# EAGLE library part *138 (library digital)
74xx138: 3-to-8 line decoder
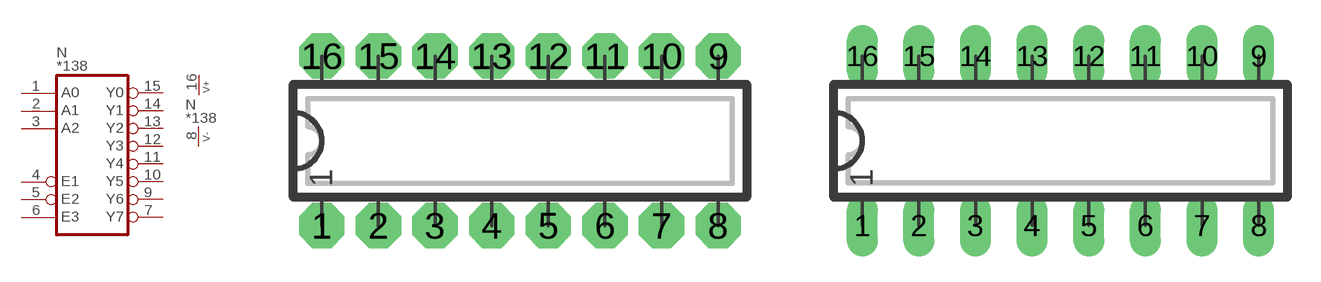
[diagram p11: symbol with the pads of DIP16N; footprints DIP16N, DIP16L]

Designator prefix N; gates  =3TO8_1 P=V+-

## 74AC138N, 74ACT138N, 74ALS138N, 74AS138N, 74HC138N, 74HCT138N, 74LS138N, 74S138N  [DIP16N]
1   :A0  in
2   :A1  in
3   :A2  in
4   :E1  in
5   :E2  in
6   :E3  in
7   :Y7  out
8  P:V-  pwr
9   :Y6  out
10   :Y5  out
11   :Y4  out
12   :Y3  out
13   :Y2  out
14   :Y1  out
15   :Y0  out
16  P:V+  pwr

## 74AC138, 74ACT138, 74ALS138, 74AS138, 74HC138, 74HCT138, 74LS138, 74S138  [DIP16L]
Pads as for DIP16N

## 74AC138L, 74ACT138L, 74ALS138L, 74AS138L, 74HC138L, 74HCT138L, 74LS138L, 74S138L  [DIP16L]
Pads as for DIP16N

## 74AC138R, 74ACT138R, 74ALS138R, 74AS138R, 74HC138R, 74HCT138R, 74LS138R, 74S138R  [DIP16R]
Pads as for DIP16N

## 74AC138S, 74ACT138S, 74HC138S, 74HCT138S  [SO16]
Pads as for DIP16N

## Footprint DIP16N (pad centres in mm)
DIP-16 Standard IC package, 16 pins
drill 0.813 pad 2.032 octagon: 1 0,0; 2 2.54,0; 3 5.08,0; 4 7.62,0; 5 10.16,0; 6 12.7,0; 7 15.24,0; 8 17.78,0; 9 17.78,7.62; 10 15.24,7.62; 11 12.7,7.62; 12 10.16,7.62; 13 7.62,7.62; 14 5.08,7.62; 15 2.54,7.62; 16 0,7.62

## Footprint DIP16L (pad centres in mm)
DIP-16, long pads Standard IC package, 16 pins
drill 0.813 pad 1.397 long: 1 0,0; 2 2.54,0; 3 5.08,0; 4 7.62,0; 5 10.16,0; 6 12.7,0; 7 15.24,0; 8 17.78,0; 9 17.78,7.62; 10 15.24,7.62; 11 12.7,7.62; 12 10.16,7.62; 13 7.62,7.62; 14 5.08,7.62; 15 2.54,7.62; 16 0,7.62

## Footprint DIP16R (pad centres in mm)
DIP-16, reduced pads Standard IC package, 16 pins
drill 0.813 pad 1.397 square: 1 0,0; 2 2.54,0; 3 5.08,0; 4 7.62,0; 5 10.16,0; 6 12.7,0; 7 15.24,0; 8 17.78,0; 9 17.78,7.62; 10 15.24,7.62; 11 12.7,7.62; 12 10.16,7.62; 13 7.62,7.62; 14 5.08,7.62; 15 2.54,7.62; 16 0,7.62

## Footprint SO16 (pad centres in mm)
SO-16, SMD SOIC IC package, 16 pins
smd 0.635 x 1.778: 1 -4.445,-2.857; 2 -3.175,-2.857; 3 -1.905,-2.857; 4 -0.635,-2.857; 5 0.635,-2.857; 6 1.905,-2.857; 7 3.175,-2.857; 8 4.445,-2.857; 9 4.445,2.857; 10 3.175,2.857; 11 1.905,2.857; 12 0.635,2.857; 13 -0.635,2.857; 14 -1.905,2.857; 15 -3.175,2.857; 16 -4.445,2.857